# EAGLE library part MAX16819 (library _RoweTel)
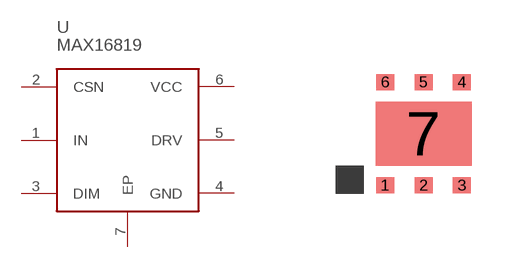
[diagram p39: symbol with the pads of TDFN-6; footprint TDFN-6]

Designator prefix U

## MAX16819  [TDFN-6]
1  IN  in
2  CSN  in
3  DIM  in
4  GND  pas
5  DRV  out
6  VCC  pas
7  EP  pas

## Footprint TDFN-6 (pad centres in mm)
smd 0.45 x 0.4: 1 -0.96,-1.29; 2 0,-1.29; 3 0.96,-1.29; 4 0.96,1.29; 5 0,1.29; 6 -0.96,1.29
smd 2.4 x 1.6: 7 0,0